# Altium footprint library SamacSys.PcbLib: 61 footprints (part 1 of 4)
Each footprint in its own frame and in the unit in brackets; x right, y up, seen from the top. Pads: shape width x height; smd on the part's side, far side on the other; paste and mask are expansions set on the pad; w line width, h text height; cw(c..) or ccw(c..) is an arc to the next point about the centre after c.
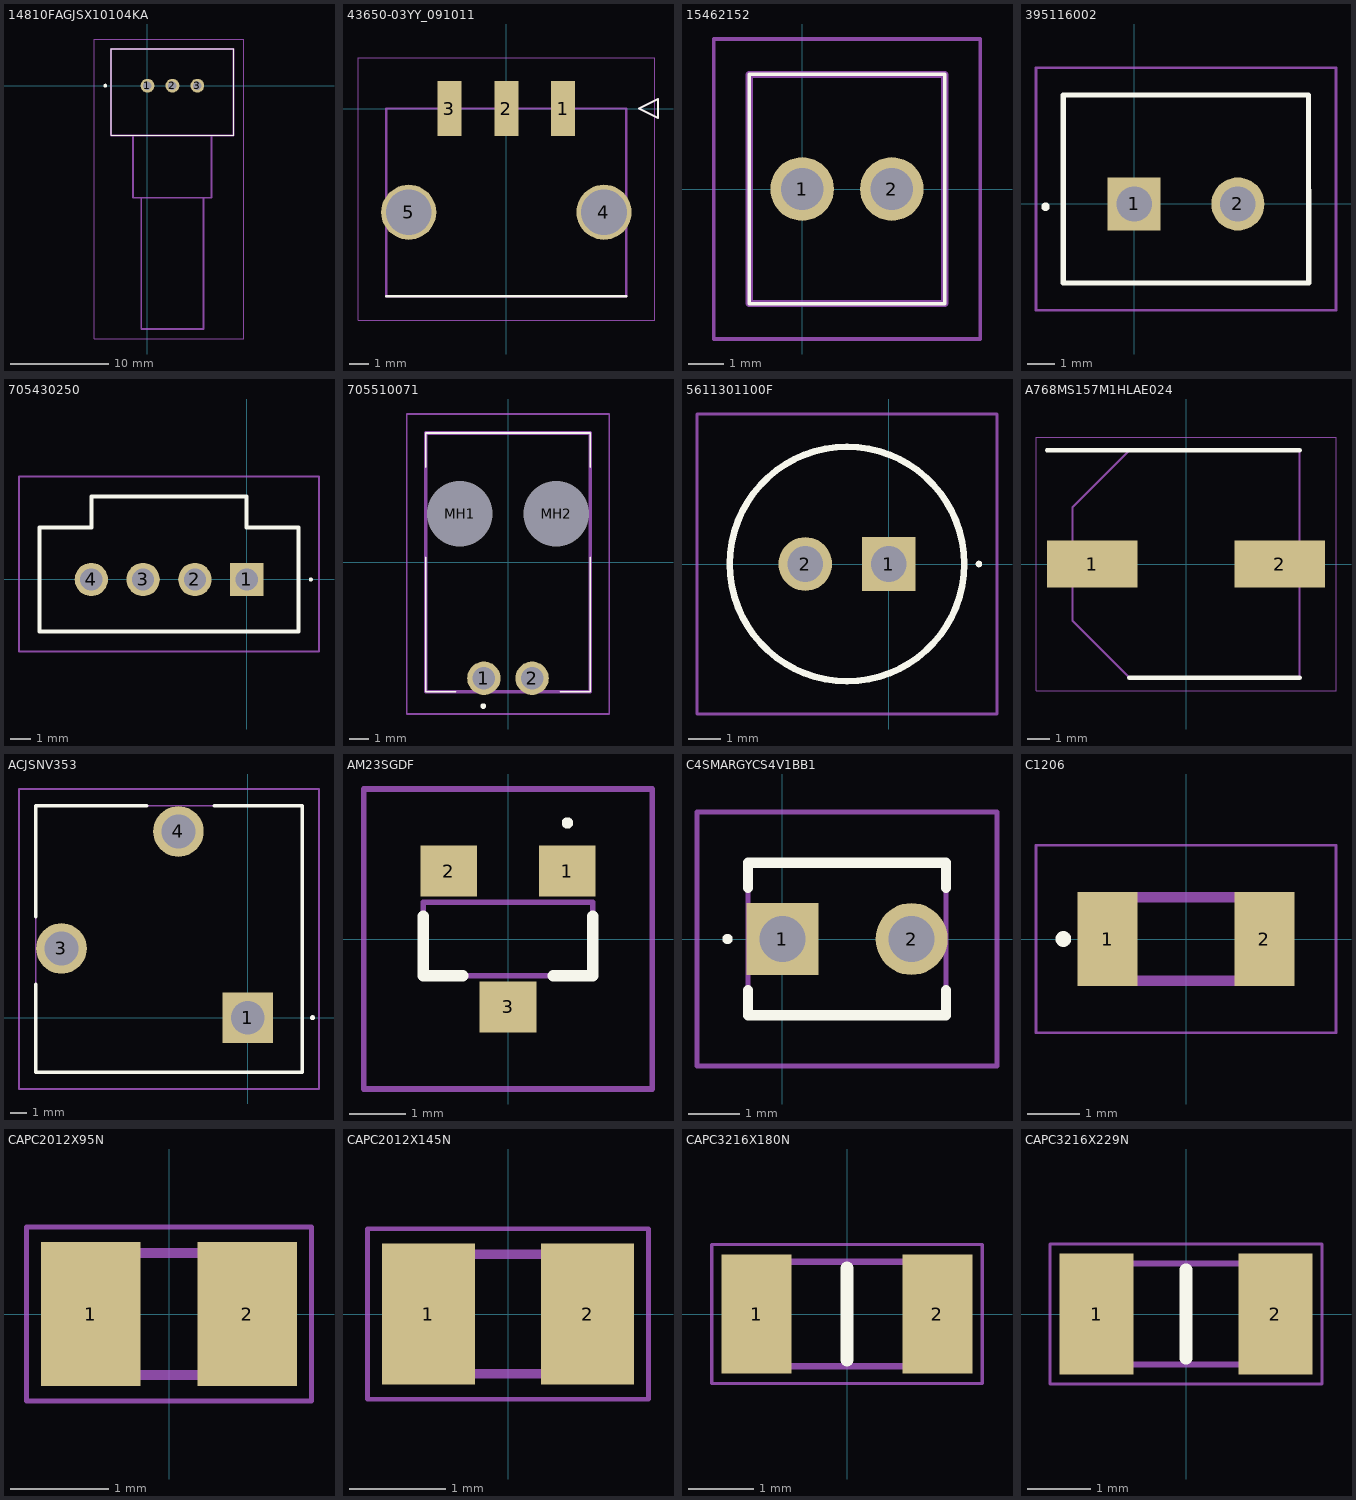
[diagram p0: the footprints below, top view; thin cyan lines are the x and y axes]

## 14810FAGJSX10104KA [mm]
pads (3):
  round 1.414 hole 0.87: 1(0,0) 2(2.54,0) 3(5.08,0)
Top Overlay:
  lines w0.1: -3.71,-5.07 -3.71,3.76 8.79,3.76 8.79,-5.07 -3.71,-5.07
  lines w0.2: -4.3,-0.1 cw(c-4.3,0) -4.3,0.1 cw(c-4.3,0) -4.3,-0.1
Mechanical 13:
  lines w0.2: -1.46,-5.07 -1.46,-11.42 6.54,-11.42 6.54,-5.07 ; -0.635,-11.42 -0.635,-24.815 5.715,-24.815 5.715,-11.42 ; -3.71,-5.07 -3.71,3.76 8.79,3.76 8.79,-5.07 -3.71,-5.07
Mechanical 15:
  lines w0.1: -5.4,-25.815 -5.4,4.76 9.79,4.76 9.79,-25.815 -5.4,-25.815
3D body "14810FAGJSX10104KA.stp": height 13.05, standoff -8.9, extent -3.7,-25.575 8.8,5.48

## 43650-03YY_091011 [mm]
pads (5):
  rect 1.27x2.92 smd: 1(3,0) 2(0,0) 3(-3,0)
  round 2.91 hole 2.41: 4(5.15,-5.47) 5(-5.15,-5.47)
Top Overlay:
  lines w0.127: -6.325,-9.9 6.325,-9.9 ; 7,0 8,0.5 8,-0.5 7,0
Mechanical 13:
  lines w0.127: -6.325,-9.9 -6.325,0 6.325,0 6.325,-9.9 -6.325,-9.9 ; 7,0 8,0.5 8,-0.5 7,0
Mechanical 15:
  lines w0.05: -7.824,-11.17 -7.824,2.679 7.824,2.679 7.824,-11.17 -7.824,-11.17
3D body "43650-0310.stp": height 5.71, standoff -1.9, extent -6.175,-10.06 6.475,0.678

## 15462152 [mm]
pads (2):
  round 1.8 hole 1.2: 1(0,0) 2(2.54,0)
Top Overlay:
  lines w0.1: -1.5,-3.25 4.04,-3.25 4.04,3.25 -1.5,3.25 -1.5,-3.25
Mechanical 13:
  lines w0.2: -1.5,-3.25 4.04,-3.25 4.04,3.25 -1.5,3.25 -1.5,-3.25
Mechanical 15:
  lines w0.1: -2.5,-4.25 5.04,-4.25 5.04,4.25 -2.5,4.25 -2.5,-4.25
3D body "1546215-2.stp": height 9.91, standoff -3.49, extent -1.455,-3.25 3.995,3.25

## 395116002 [mm]
pads (2):
  rect 1.95x1.95 hole 1.3: 1(0,0)
  round 1.95 hole 1.3: 2(3.81,0)
Top Overlay:
  lines w0.2: -3.3,-0.1 ccw(c-3.25,-0.1) -3.2,-0.1 ; -3.3,-0.1 cw(c-3.25,-0.1) -3.2,-0.1 ; -3.3,-0.1 ccw(c-3.25,-0.1) -3.2,-0.1 ; -2.6,-2.9 6.41,-2.9 6.4,4 -2.6,4 -2.6,-2.9
Mechanical 13:
  lines w0.1: -2.6,-2.9 -2.6,4 6.41,4 6.41,-2.9 -2.6,-2.9
Mechanical 15:
  lines w0.1: -3.6,-3.9 -3.6,5 7.41,5 7.41,-3.9 -3.6,-3.9
3D body "39511-6002.stp": height 9.01, standoff -3.69, extent -2.599,-2.8 6.418,4.058

## 705430250 [mm]
pads (4):
  rect 1.635x1.635 hole 1.09: 1(0,0)
  round 1.635 hole 1.09: 2(-2.54,0) 3(-5.08,0) 4(-7.62,0)
Top Overlay:
  lines w0.1: 3.1,0 ccw(c3.15,0) 3.2,0 ccw(c3.15,0) 3.1,0
  lines w0.2: -10.165,-2.54 2.545,-2.54 2.545,2.54 0,2.54 0,4.06 -7.62,4.06 -7.62,2.54 -10.165,2.54 -10.165,-2.54
Mechanical 13:
  lines w0.1: -10.165,-2.54 2.545,-2.54 2.545,2.54 0,2.54 0,4.06 -7.62,4.06 -7.62,2.54 -10.165,2.54 -10.165,-2.54
Mechanical 15:
  lines w0.1: -11.165,-3.54 -11.165,5.06 3.545,5.06 3.545,-3.54 -11.165,-3.54
3D body "70543-0250.stp": height 11.72, standoff -4.16, extent -10.16,-2.54 2.54,4.064

## 705510071 [mm]
pads (4):
  round 1.755 hole 1.17: 1(-1.27,-6.085) 2(1.27,-6.085)
  round 1.725 hole 3.45 unplated: MH1(-2.54,2.555) MH2(2.54,2.555)
Top Overlay:
  lines w0.1: -4.32,0.25 -4.32,-6.795 -2.75,-6.795 ; -4.32,5 -4.32,6.795 4.32,6.795 4.32,5 ; 2.75,-6.795 4.32,-6.795 4.32,0.25
  lines w0.2: -1.3,-7.6 ccw(c-1.3,-7.55) -1.3,-7.5 ; -1.3,-7.6 cw(c-1.3,-7.55) -1.3,-7.5 ; -1.3,-7.6 ccw(c-1.3,-7.55) -1.3,-7.5
Mechanical 13:
  lines w0.2: -4.32,-6.795 -4.32,6.795 4.32,6.795 4.32,-6.795 -4.32,-6.795
Mechanical 15:
  lines w0.1: -5.32,-7.963 -5.32,7.795 5.32,7.795 5.32,-7.963 -5.32,-7.963
3D body "70551-0071.stp": height 6.86, standoff -3.93, extent -4.317,-6.874 4.317,6.715

## 5611301100F [mm]
pads (2):
  rect 1.635x1.635 hole 1.09: 1(0,0)
  round 1.635 hole 1.09: 2(-2.54,0)
Top Overlay:
  lines w0.1: 2.7,0 ccw(c2.75,0) 2.8,0 ccw(c2.75,0) 2.7,0
  lines w0.2: -1.27,-3.57 ccw(c-1.27,0) -1.27,3.57 ccw(c-1.27,0) -1.27,-3.57
Mechanical 13:
  lines w0.1: -1.27,-3.57 ccw(c-1.27,0) -1.27,3.57 ccw(c-1.27,0) -1.27,-3.57
Mechanical 15:
  lines w0.1: -5.84,-4.57 -5.84,4.57 3.3,4.57 3.3,-4.57 -5.84,-4.57
3D body "561-1301-100F.stp": height 25.75, standoff -5, extent -4.828,-3.57 2.288,3.57

## A768MS157M1HLAE024 [mm]
pads (2):
  rect 4.1x2.15 smd: 1(-4.25,0) 2(4.25,0)
Top Overlay:
  lines w0.2: -6.3,5.15 5.15,5.15 ; -2.575,-5.15 5.15,-5.15
Mechanical 13:
  lines w0.1: -5.15,-2.575 -2.575,-5.15 5.15,-5.15 5.15,5.15 -2.575,5.15 -5.15,2.575 -5.15,-2.575
Mechanical 15:
  lines w0.05: -6.8,-5.75 -6.8,5.75 6.8,5.75 6.8,-5.75 -6.8,-5.75
3D body "A771MS107M1JLAS018.stp": height 12.7, standoff 0, extent -5.6,-5.25 5.6,5.25

## ACJSNV353 [mm]
pads (3):
  rect 3x3 hole 2: 1(0,0)
  round 3 hole 2: 3(-11.05,4.11) 4(-4.11,11.05)
Top Overlay:
  lines w0.2: -12.57,2 -12.57,-3.23 3.23,-3.23 3.23,12.57 -2,12.57 ; -12.57,6 -12.57,12.57 -6,12.57 ; 3.8,0 ccw(c3.85,0) 3.9,0 ; 3.8,0 cw(c3.85,0) 3.9,0 ; 3.8,0 ccw(c3.85,0) 3.9,0
Mechanical 13:
  lines w0.1: -12.57,-3.23 -12.57,12.57 3.23,12.57 3.23,-3.23 -12.57,-3.23
Mechanical 15:
  lines w0.1: -13.57,-4.23 -13.57,13.57 4.23,13.57 4.23,-4.23 -13.57,-4.23
3D body "ACJS-NV35-3.stp": height 27.1, standoff -5, extent -12.57,-3.23 3.23,12.57

## AM23SGDF [mm]
pads (3):
  rect 1x0.9 smd: 1(1.05,1.2) 2(-1.05,1.2) 3(0,-1.2)
Top Overlay:
  lines w0.1: 1.05,2 ccw(c1.05,2.05) 1.05,2.1 ccw(c1.05,2.05) 1.05,2
  lines w0.2: -1.5,0.4 -1.5,-0.65 -0.8,-0.65 ; 0.8,-0.65 1.5,-0.65 1.5,0.4
Mechanical 13:
  lines w0.1: -1.5,-0.65 1.5,-0.65 1.5,0.65 -1.5,0.65 -1.5,-0.65
Mechanical 15:
  lines w0.1: -2.55,-2.65 2.55,-2.65 2.55,2.65 -2.55,2.65 -2.55,-2.65

## C4SMARGYCS4V1BB1 [mm]
pads (2):
  rect 1.416x1.416 hole 0.91: 1(0,0)
  round 1.416 hole 0.91: 2(2.54,0)
Top Overlay:
  lines w0.1: -1.13,0 cw(c-1.08,0) -1.03,0 cw(c-1.08,0) -1.13,0
  lines w0.2: -0.68,-1 -0.68,-1.5 3.22,-1.5 3.22,-1 ; -0.68,1 -0.68,1.5 3.22,1.5 3.22,1
Mechanical 13:
  lines w0.1: -0.68,-1.5 -0.68,1.5 3.22,1.5 3.22,-1.5 -0.68,-1.5
Mechanical 15:
  lines w0.1: -1.68,-2.5 -1.68,2.5 4.22,2.5 4.22,-2.5 -1.68,-2.5
3D body "C4SMA-RGY-CS4V1BB1.stp": height 10.14, standoff -22.16, extent -0.68,-1.499 3.216,1.5

## C1206 [mm]
pads (2):
  rect 1.15x1.8 smd: 1(-1.5,0) 2(1.5,0)
Top Overlay:
  circle w0.2: c-2.35,0 r0.05
Mechanical 13:
  lines w0.2: -1.6,-0.8 -1.6,0.8 1.6,0.8 1.6,-0.8 -1.6,-0.8
Mechanical 15:
  lines w0.05: -2.875,-1.8 -2.875,1.8 2.875,1.8 2.875,-1.8 -2.875,-1.8
3D body "C1206F104M4RACTU.stp": height 1.75, standoff 0, extent -1.7,-0.9 1.7,0.9

## CAPC2012X95N [mm]
pads (2):
  rect 1.02x1.47 smd: 1(-0.8,0) 2(0.8,0)
Mechanical 13:
  lines w0.1: -1,-0.625 -1,0.625 1,0.625 1,-0.625 -1,-0.625
Mechanical 15:
  lines w0.05: -1.46,-0.89 -1.46,0.89 1.46,0.89 1.46,-0.89 -1.46,-0.89
3D body "CC0805KKX7R0BB474.stp": height 0.63, standoff -0.63, extent -1,0 1,0.95

## CAPC2012X145N [mm]
pads (2):
  rect 0.97x1.47 smd: 1(-0.83,0) 2(0.83,0)
Mechanical 13:
  lines w0.1: -1,-0.625 -1,0.625 1,0.625 1,-0.625 -1,-0.625
Mechanical 15:
  lines w0.05: -1.465,-0.89 -1.465,0.89 1.465,0.89 1.465,-0.89 -1.465,-0.89
3D body "CL21X107MRYN3WE.stp": height 1.45, standoff 0, extent -1,-0.625 1,0.625

## CAPC3216X180N [mm]
pads (2):
  rect 1.07x1.82 smd: 1(-1.38,0) 2(1.38,0)
Top Overlay:
  lines w0.2: 0,-0.7 0,0.7
Mechanical 13:
  lines w0.1: -1.6,-0.8 -1.6,0.8 1.6,0.8 1.6,-0.8 -1.6,-0.8
Mechanical 15:
  lines w0.05: -2.065,-1.06 -2.065,1.06 2.065,1.06 2.065,-1.06 -2.065,-1.06
3D body "GRT31CC80J476KE13L.stp": height 1.8, standoff 0, extent -1.6,-0.8 1.6,0.8

## CAPC3216X229N [mm]
pads (2):
  rect 1.18x1.92 smd: 1(-1.42,0) 2(1.42,0)
Top Overlay:
  lines w0.2: 0,-0.7 0,0.7
Mechanical 13:
  lines w0.1: -1.6,-0.8 -1.6,0.8 1.6,0.8 1.6,-0.8 -1.6,-0.8
Mechanical 15:
  lines w0.05: -2.16,-1.11 -2.16,1.11 2.16,1.11 2.16,-1.11 -2.16,-1.11
3D body "1206YD476MAT2A.stp": height 2.29, standoff 0, extent -1.6,-0.8 1.6,0.8